# Altium footprint library EPC 3Q2015.pcblib: 18 footprints (part 2 of 2)
Each footprint in its own frame and in the unit in brackets; x right, y up, seen from the top. Pads: shape width x height; smd on the part's side, far side on the other; paste and mask are expansions set on the pad; w line width, h text height; cw(c..) or ccw(c..) is an arc to the next point about the centre after c.
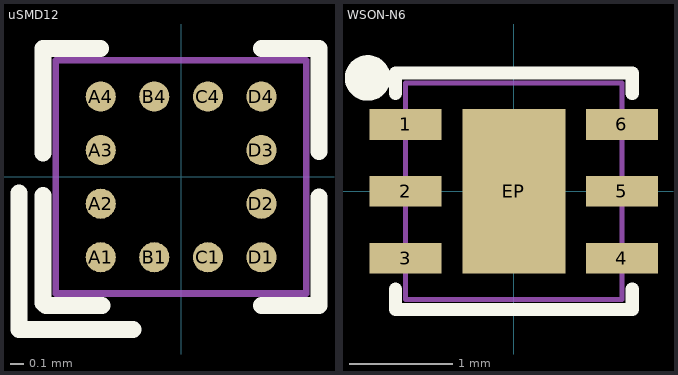
[diagram p1: the footprints below, top view; thin cyan lines are the x and y axes]

## uSMD12 [mm] "Micro SMD 2mm x 2mm 12pin BGA"
height 0.6
pads (12):
  round 0.225 smd paste+0 mask+0.025: A1(-0.6,-0.6) A2(-0.6,-0.2) A3(-0.6,0.2) A4(-0.6,0.6) B1(-0.2,-0.6) B4(-0.2,0.6) C1(0.2,-0.6) C4(0.2,0.6) D1(0.6,-0.6) D2(0.6,-0.2) D3(0.6,0.2) D4(0.6,0.6)
Top Overlay:
  lines w0.127: -1.21,-0.12 -1.21,-1.14 -0.36,-1.14 ; -1.03,-0.14 -1.03,-0.94 -1.01,-0.96 -0.59,-0.96 ; -1.03,0.18 -1.03,0.96 -0.6,0.96 ; 0.6,-0.96 1.03,-0.96 1.03,-0.15 ; 0.6,0.96 1.03,0.96 1.03,0.19
Mechanical 13:
  lines w0.05: -0.935,-0.871 -0.935,0.871 0.935,0.871 0.935,-0.871 -0.935,-0.871
3D body: height 0.5, standoff 0.1, extent -0.93,-0.87 0.93,0.87

## WSON-N6 [mm]
height 0.8
pads (7):
  rect 0.7x0.3 smd paste-0.025 mask+0.07: 1(-1.05,0.65) 2(-1.05,0) 3(-1.05,-0.65) 4(1.05,-0.65) 5(1.05,0) 6(1.05,0.65)
  rect 1x1.6 smd paste-0.1 mask+0.07: EP(0,0)
Top Overlay:
  circle w0.254: c-1.419,1.1 r0.094
  lines w0.127: -1.15,-0.95 -1.15,-1.15 1.15,-1.15 1.15,-0.95 ; -1.15,0.95 -1.15,1.15 1.15,1.15 1.15,0.95
Mechanical 13:
  lines w0.05: -1.05,-1.05 1.05,-1.05 1.05,1.05 -1.05,1.05 -1.05,-1.05
3D body: height 0.8, standoff 0.1, extent -1.05,-1.05 1.05,1.05